# EAGLE library part SWITCH,BUTTON,ROUND,7MM (library StdBxLibrary_BETA_)
BETA! SB0003 - Switch, DPDT, PTH, 200mA, 14V, 7mm ROUND CAP Momentary and Push-on/Push-off with various color caps
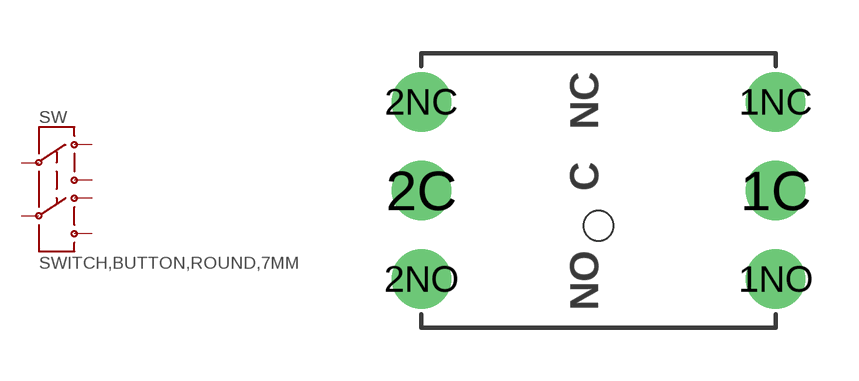
[diagram p5: symbol with the pads of 8X10_BUTTON_ROUND; footprint 8X10_BUTTON_ROUND]

Designator prefix SW

## SWITCH,BUTTON,ROUND,7MM  [8X10_BUTTON_ROUND]
1C  1C
1NC  1NC
1NO  1NO
2C  2C
2NC  2NC
2NO  2NO

## Footprint 8X10_BUTTON_ROUND (pad centres in mm)
drill 0.95 pad 1.676: 1C 5,0; 1NC 5,2.5; 1NO 5,-2.5; 2C -5,0; 2NC -5,2.5; 2NO -5,-2.5
hole 0.85 at 0,-1